# Altium schematic symbol library k7sch2.SchLib: 4 symbols
Pins are listed as number, name and electrical type; pins without a type are passive.

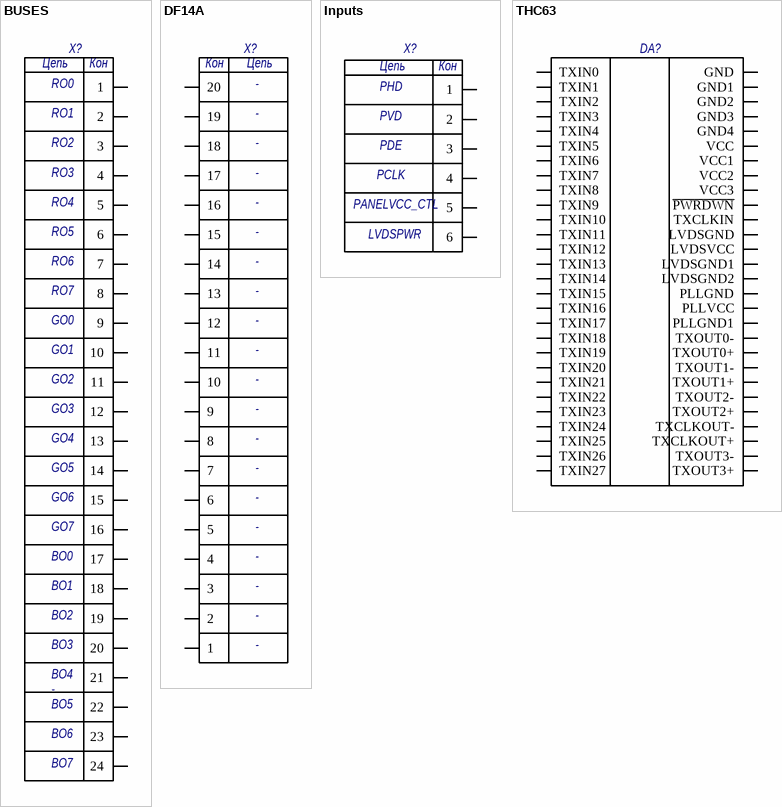
[diagram p0: symbols BUSES to THC63]

## BUSES
designator X?  (value not drawn)
footprint BUSES
pins: 1, 2, 3, 4, 5, 6, 7, 8, 9, 10, 11, 12, 13, 14, 15, 16, 17, 18, 19, 20, 21, 22, 23, 24
text: Цепь; Кон; RO0; RO1; RO2; RO3; RO4; RO5; RO6; RO7; GO0; GO1; GO2; GO3; GO4; GO5; GO6; GO7; BO0; BO1; BO2; BO3; BO4; -; BO5; BO6; BO7

## DF14A
designator X?  (value not drawn)
footprint DF14A
pins: 1, 2, 3, 4, 5, 6, 7, 8, 9, 10, 11, 12, 13, 14, 15, 16, 17, 18, 19, 20
text: Кон; Цепь; -

## Inputs
designator X?  (value not drawn)
footprint Inputs
pins: 1, 2, 3, 4, 5, 6
text: Цепь; Кон; PHD; PVD; PDE; PCLK; PANELVCC_CTL; LVDSPWR

## THC63
designator DA?  (value not drawn)
footprint THC63
pins: 1 TXIN0, 2 TXIN1, 3 TXIN2, 4 TXIN3, 5 TXIN4, 6 TXIN5, 7 TXIN6, 8 TXIN7, 9 TXIN8, 10 TXIN9, 11 TXIN10, 12 TXIN11, 13 TXIN12, 14 TXIN13, 15 TXIN14, 16 TXIN15, 17 TXIN16, 18 TXIN17, 19 TXIN18, 20 TXIN19, 21 TXIN20, 22 TXIN21, 23 TXIN22, 24 TXIN23, 25 TXIN24, 26 TXIN25, 27 TXIN26, 28 TXIN27, 29 TXOUT3+, 30 TXOUT3-, 31 TXCLKOUT+, 32 TXCLKOUT-, 33 TXOUT2+, 34 TXOUT2-, 35 TXOUT1+, 36 TXOUT1-, 37 TXOUT0+, 38 TXOUT0-, 39 PLLGND1, 40 PLLVCC, 41 PLLGND, 42 LVDSGND2, 43 LVDSGND1, 44 LVDSVCC, 45 LVDSGND, 46 TXCLKIN, 47 ~{PWRDWN}, 48 VCC3, 49 VCC2, 50 VCC1, 51 VCC, 52 GND4, 53 GND3, 54 GND2, 55 GND1, 56 GND